# Altium schematic symbol library Molex FFC - FPC Connectors (Through-Hole).SchLib: 219 symbols (part 5 of 7)
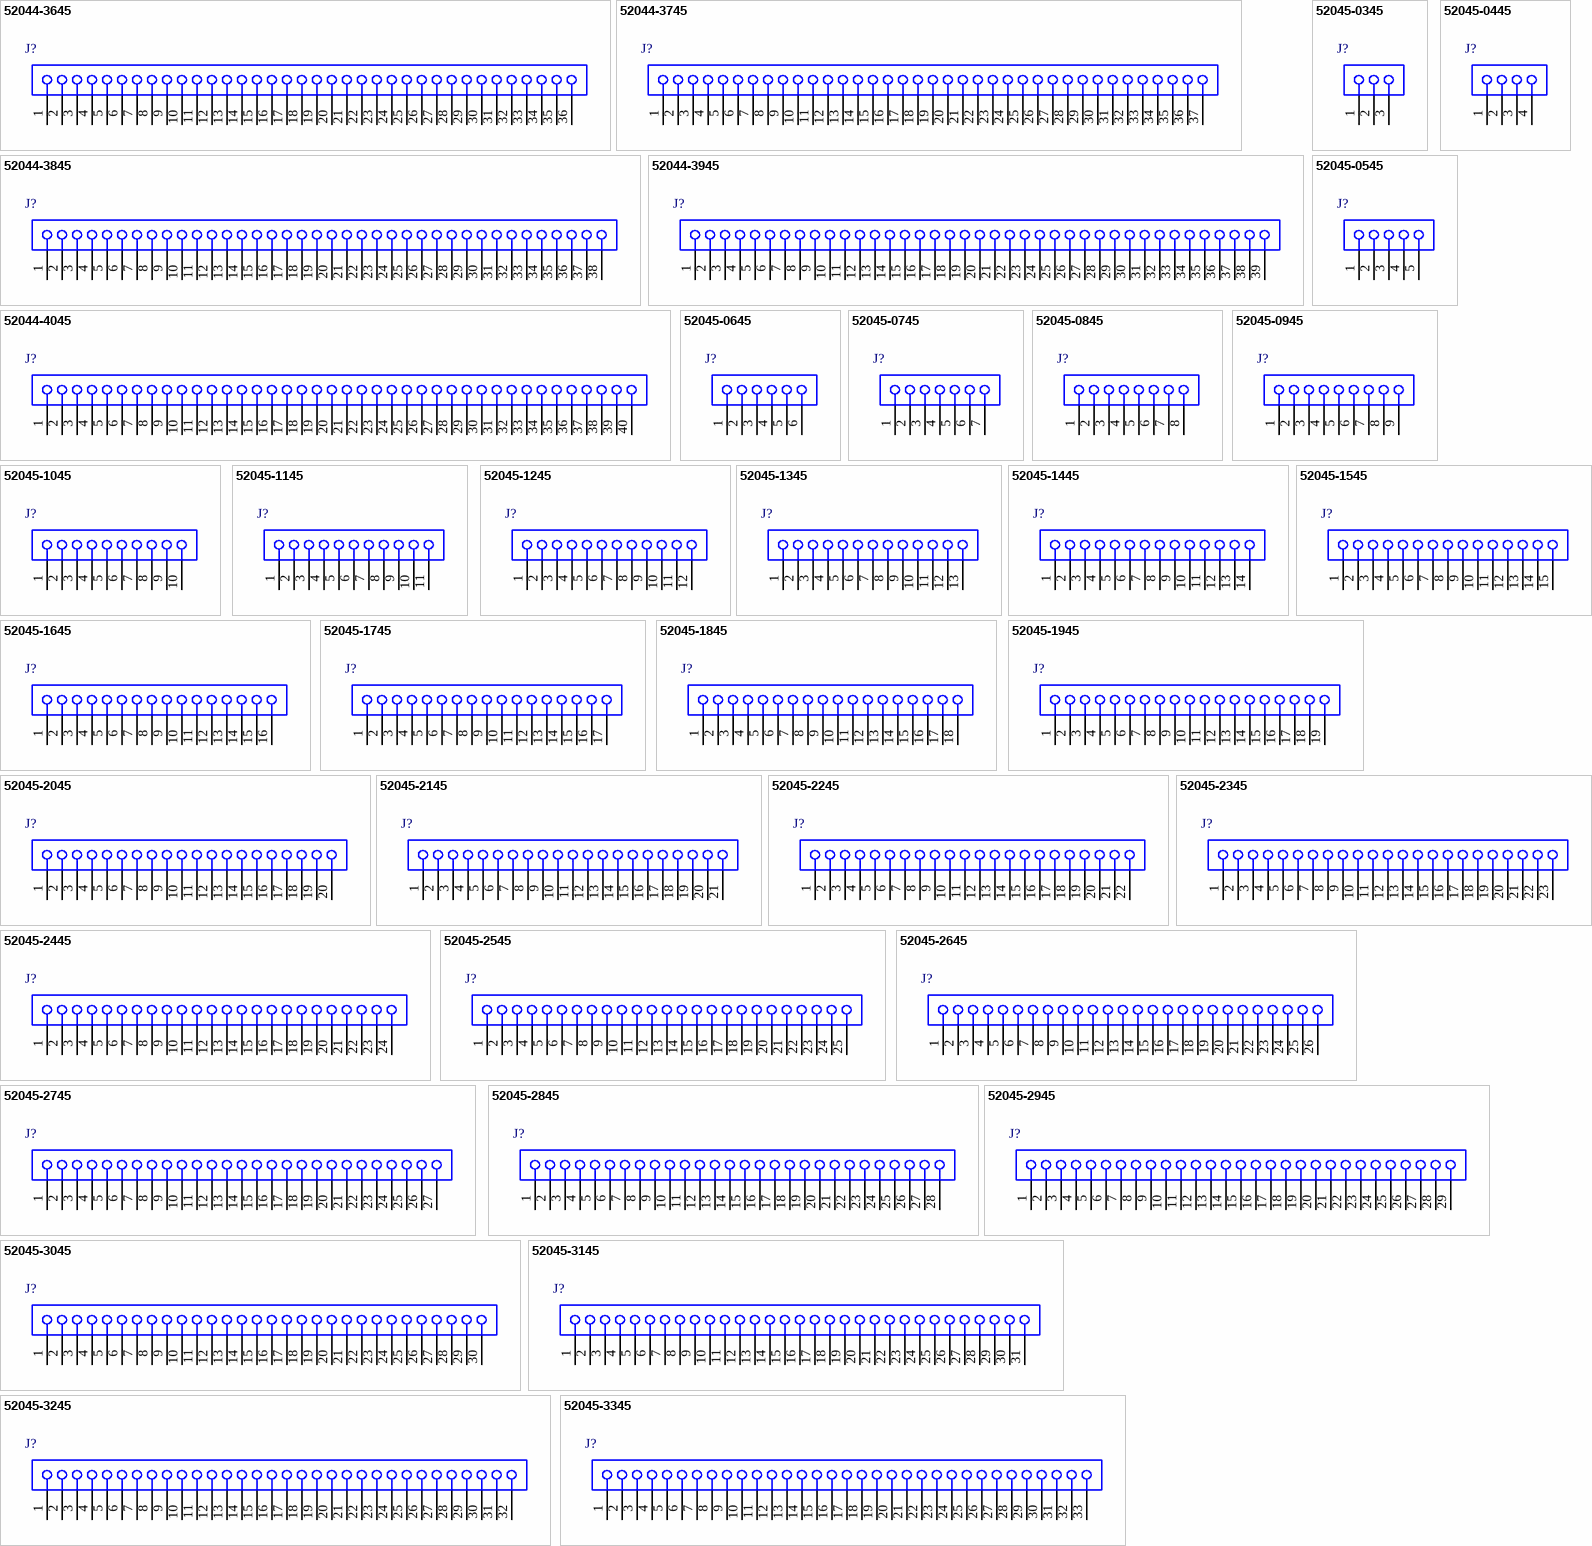
[diagram p9: symbols 52044-3645 to 52045-3345]

## 52045-2845
designator J?
1.25 mm Pitch FFC Connector, 8.0 mm Mated Height, Vertical, Non-ZIF, Through Hole, 28 Circuits, -40 to 85 degC, ELV and RoHS Compliant, Tray; Manufacturer: Molex; PartNumber: 52045-2845; Circuits (Loaded): 28; Current (Max per Contact): 1A; Mated Height: 8.00mm; Material - Metal: Phosphor Bronze; Material - Plating Mating: Tin; PCB Retention: None; Pitch - Mating Interface: 1.25mm; Polarized to PCB: Yes; Stackable: No; Voltage (Max): 200V; PackageVersion: Rev. D, 10/2002; PackageReference: 52045-2845; PackageDescription: 28-Lead FFC Connector, Pitch 1.25 mm; Contact Position: N/A; Entry Angle: Vertical; Material - Plating Termination: Tin; Number of Rows: 1; Orientation: Vertical; Packing: Tray; RoHS: TRUE; Mounting Technology: Through Hole; ComponentLink1Description: Manufacturer URL; ComponentLink1URL: http://www.molex.com/molex/index.jsp; ComponentLink2Description: Datasheet; ComponentLink2URL: http://www.molex.com/webdocs/datasheets/pdf/en-us/0520452845_FFC_FPC_CONNECTORS.pdf; ComponentLink3Description: Package Specification; ComponentLink3URL: http://www.molex.com/pdm_docs/sd/520452845_sd.pdf
footprint MOLX-52045-2845 (FFC Connector, 28-Leads, Vertical, Pitch 1.25 mm, Mated Height 8.0 mm, Through Hole)
pins: 1, 2, 3, 4, 5, 6, 7, 8, 9, 10, 11, 12, 13, 14, 15, 16, 17, 18, 19, 20, 21, 22, 23, 24, 25, 26, 27, 28

## 52045-2945
designator J?
1.25 mm Pitch FFC Connector, 8.0 mm Mated Height, Vertical, Non-ZIF, Through Hole, 29 Circuits, -40 to 85 degC, ELV and RoHS Compliant, Tray; Manufacturer: Molex; PartNumber: 52045-2945; Circuits (Loaded): 29; Current (Max per Contact): 1A; Mated Height: 8.00mm; Material - Metal: Phosphor Bronze; Material - Plating Mating: Tin; PCB Retention: None; Pitch - Mating Interface: 1.25mm; Polarized to PCB: Yes; Stackable: No; Voltage (Max): 200V; PackageVersion: Rev. D, 10/2002; PackageReference: 52045-2945; PackageDescription: 29-Lead FFC Connector, Pitch 1.25 mm; Contact Position: N/A; Entry Angle: Vertical; Material - Plating Termination: Tin; Number of Rows: 1; Orientation: Vertical; Packing: Tray; RoHS: TRUE; Mounting Technology: Through Hole; ComponentLink1Description: Manufacturer URL; ComponentLink1URL: http://www.molex.com/molex/index.jsp; ComponentLink2Description: Datasheet; ComponentLink2URL: http://www.molex.com/webdocs/datasheets/pdf/en-us/0520452945_FFC_FPC_CONNECTORS.pdf; ComponentLink3Description: Package Specification; ComponentLink3URL: http://www.molex.com/pdm_docs/sd/520452945_sd.pdf
footprint MOLX-52045-2945 (FFC Connector, 29-Leads, Vertical, Pitch 1.25 mm, Mated Height 8.0 mm, Through Hole)
pins: 1, 2, 3, 4, 5, 6, 7, 8, 9, 10, 11, 12, 13, 14, 15, 16, 17, 18, 19, 20, 21, 22, 23, 24, 25, 26, 27, 28, 29

## 52045-3045
designator J?
1.25 mm Pitch FFC Connector, 8.0 mm Mated Height, Vertical, Non-ZIF, Through Hole, 30 Circuits, -40 to 85 degC, ELV and RoHS Compliant, Tray; Manufacturer: Molex; PartNumber: 52045-3045; Circuits (Loaded): 30; Current (Max per Contact): 1A; Mated Height: 8.00mm; Material - Metal: Phosphor Bronze; Material - Plating Mating: Tin; PCB Retention: None; Pitch - Mating Interface: 1.25mm; Polarized to PCB: Yes; Stackable: No; Voltage (Max): 200V; PackageVersion: Rev. D, 10/2002; PackageReference: 52045-3045; PackageDescription: 30-Lead FFC Connector, Pitch 1.25 mm; Contact Position: N/A; Entry Angle: Vertical; Material - Plating Termination: Tin; Number of Rows: 1; Orientation: Vertical; Packing: Tray; RoHS: TRUE; Mounting Technology: Through Hole; ComponentLink1Description: Manufacturer URL; ComponentLink1URL: http://www.molex.com/molex/index.jsp; ComponentLink2Description: Datasheet; ComponentLink2URL: http://www.molex.com/webdocs/datasheets/pdf/en-us/0520453045_FFC_FPC_CONNECTORS.pdf; ComponentLink3Description: Package Specification; ComponentLink3URL: http://www.molex.com/pdm_docs/sd/520453045_sd.pdf
footprint MOLX-52045-3045 (FFC Connector, 30-Leads, Vertical, Pitch 1.25 mm, Mated Height 8.0 mm, Through Hole)
pins: 1, 2, 3, 4, 5, 6, 7, 8, 9, 10, 11, 12, 13, 14, 15, 16, 17, 18, 19, 20, 21, 22, 23, 24, 25, 26, 27, 28, 29, 30

## 52045-3145
designator J?
1.25 mm Pitch FFC Connector, 8.0 mm Mated Height, Vertical, Non-ZIF, Through Hole, 31 Circuits, -40 to 85 degC, ELV and RoHS Compliant, Tray; Manufacturer: Molex; PartNumber: 52045-3145; Circuits (Loaded): 31; Current (Max per Contact): 1A; Mated Height: 8.00mm; Material - Metal: Phosphor Bronze; Material - Plating Mating: Tin; PCB Retention: None; Pitch - Mating Interface: 1.25mm; Polarized to PCB: Yes; Stackable: No; Voltage (Max): 200V; PackageVersion: Rev. D, 10/2002; PackageReference: 52045-3145; PackageDescription: 31-Lead FFC Connector, Pitch 1.25 mm; Contact Position: N/A; Entry Angle: Vertical; Material - Plating Termination: Tin; Number of Rows: 1; Orientation: Vertical; Packing: Tray; RoHS: TRUE; Mounting Technology: Through Hole; ComponentLink1Description: Manufacturer URL; ComponentLink1URL: http://www.molex.com/molex/index.jsp; ComponentLink2Description: Datasheet; ComponentLink2URL: http://www.molex.com/webdocs/datasheets/pdf/en-us/0520453145_FFC_FPC_CONNECTORS.pdf; ComponentLink3Description: Package Specification; ComponentLink3URL: http://www.molex.com/pdm_docs/sd/520453145_sd.pdf
footprint MOLX-52045-3145 (FFC Connector, 31-Leads, Vertical, Pitch 1.25 mm, Mated Height 8.0 mm, Through Hole)
pins: 1, 2, 3, 4, 5, 6, 7, 8, 9, 10, 11, 12, 13, 14, 15, 16, 17, 18, 19, 20, 21, 22, 23, 24, 25, 26, 27, 28, 29, 30, 31

## 52045-3245
designator J?
1.25 mm Pitch FFC Connector, 8.0 mm Mated Height, Vertical, Non-ZIF, Through Hole, 32 Circuits, -40 to 85 degC, ELV and RoHS Compliant, Tray; Manufacturer: Molex; PartNumber: 52045-3245; Circuits (Loaded): 32; Current (Max per Contact): 1A; Mated Height: 8.00mm; Material - Metal: Phosphor Bronze; Material - Plating Mating: Tin; PCB Retention: None; Pitch - Mating Interface: 1.25mm; Polarized to PCB: Yes; Stackable: No; Voltage (Max): 200V; PackageVersion: Rev. D, 10/2002; PackageReference: 52045-3245; PackageDescription: 32-Lead FFC Connector, Pitch 1.25 mm; Contact Position: N/A; Entry Angle: Vertical; Material - Plating Termination: Tin; Number of Rows: 1; Orientation: Vertical; Packing: Tray; RoHS: TRUE; Mounting Technology: Through Hole; ComponentLink1Description: Manufacturer URL; ComponentLink1URL: http://www.molex.com/molex/index.jsp; ComponentLink2Description: Datasheet; ComponentLink2URL: http://www.molex.com/webdocs/datasheets/pdf/en-us/0520453245_FFC_FPC_CONNECTORS.pdf; ComponentLink3Description: Package Specification; ComponentLink3URL: http://www.molex.com/pdm_docs/sd/520453245_sd.pdf
footprint MOLX-52045-3245 (FFC Connector, 32-Leads, Vertical, Pitch 1.25 mm, Mated Height 8.0 mm, Through Hole)
pins: 1, 2, 3, 4, 5, 6, 7, 8, 9, 10, 11, 12, 13, 14, 15, 16, 17, 18, 19, 20, 21, 22, 23, 24, 25, 26, 27, 28, 29, 30, 31, 32

## 52045-3345
designator J?
1.25 mm Pitch FFC Connector, 8.0 mm Mated Height, Vertical, Non-ZIF, Through Hole, 33 Circuits, -40 to 85 degC, ELV and RoHS Compliant, Tray; Manufacturer: Molex; PartNumber: 52045-3345; Circuits (Loaded): 33; Current (Max per Contact): 1A; Mated Height: 8.00mm; Material - Metal: Phosphor Bronze; Material - Plating Mating: Tin; PCB Retention: None; Pitch - Mating Interface: 1.25mm; Polarized to PCB: Yes; Stackable: No; Voltage (Max): 200V; PackageVersion: Rev. D, 10/2002; PackageReference: 52045-3345; PackageDescription: 33-Lead FFC Connector, Pitch 1.25 mm; Contact Position: N/A; Entry Angle: Vertical; Material - Plating Termination: Tin; Number of Rows: 1; Orientation: Vertical; Packing: Tray; RoHS: TRUE; Mounting Technology: Through Hole; ComponentLink1Description: Manufacturer URL; ComponentLink1URL: http://www.molex.com/molex/index.jsp; ComponentLink2Description: Datasheet; ComponentLink2URL: http://www.molex.com/webdocs/datasheets/pdf/en-us/0520453345_FFC_FPC_CONNECTORS.pdf; ComponentLink3Description: Package Specification; ComponentLink3URL: http://www.molex.com/pdm_docs/sd/520453345_sd.pdf
footprint MOLX-52045-3345 (FFC Connector, 33-Leads, Vertical, Pitch 1.25 mm, Mated Height 8.0 mm, Through Hole)
pins: 1, 2, 3, 4, 5, 6, 7, 8, 9, 10, 11, 12, 13, 14, 15, 16, 17, 18, 19, 20, 21, 22, 23, 24, 25, 26, 27, 28, 29, 30, 31, 32, 33

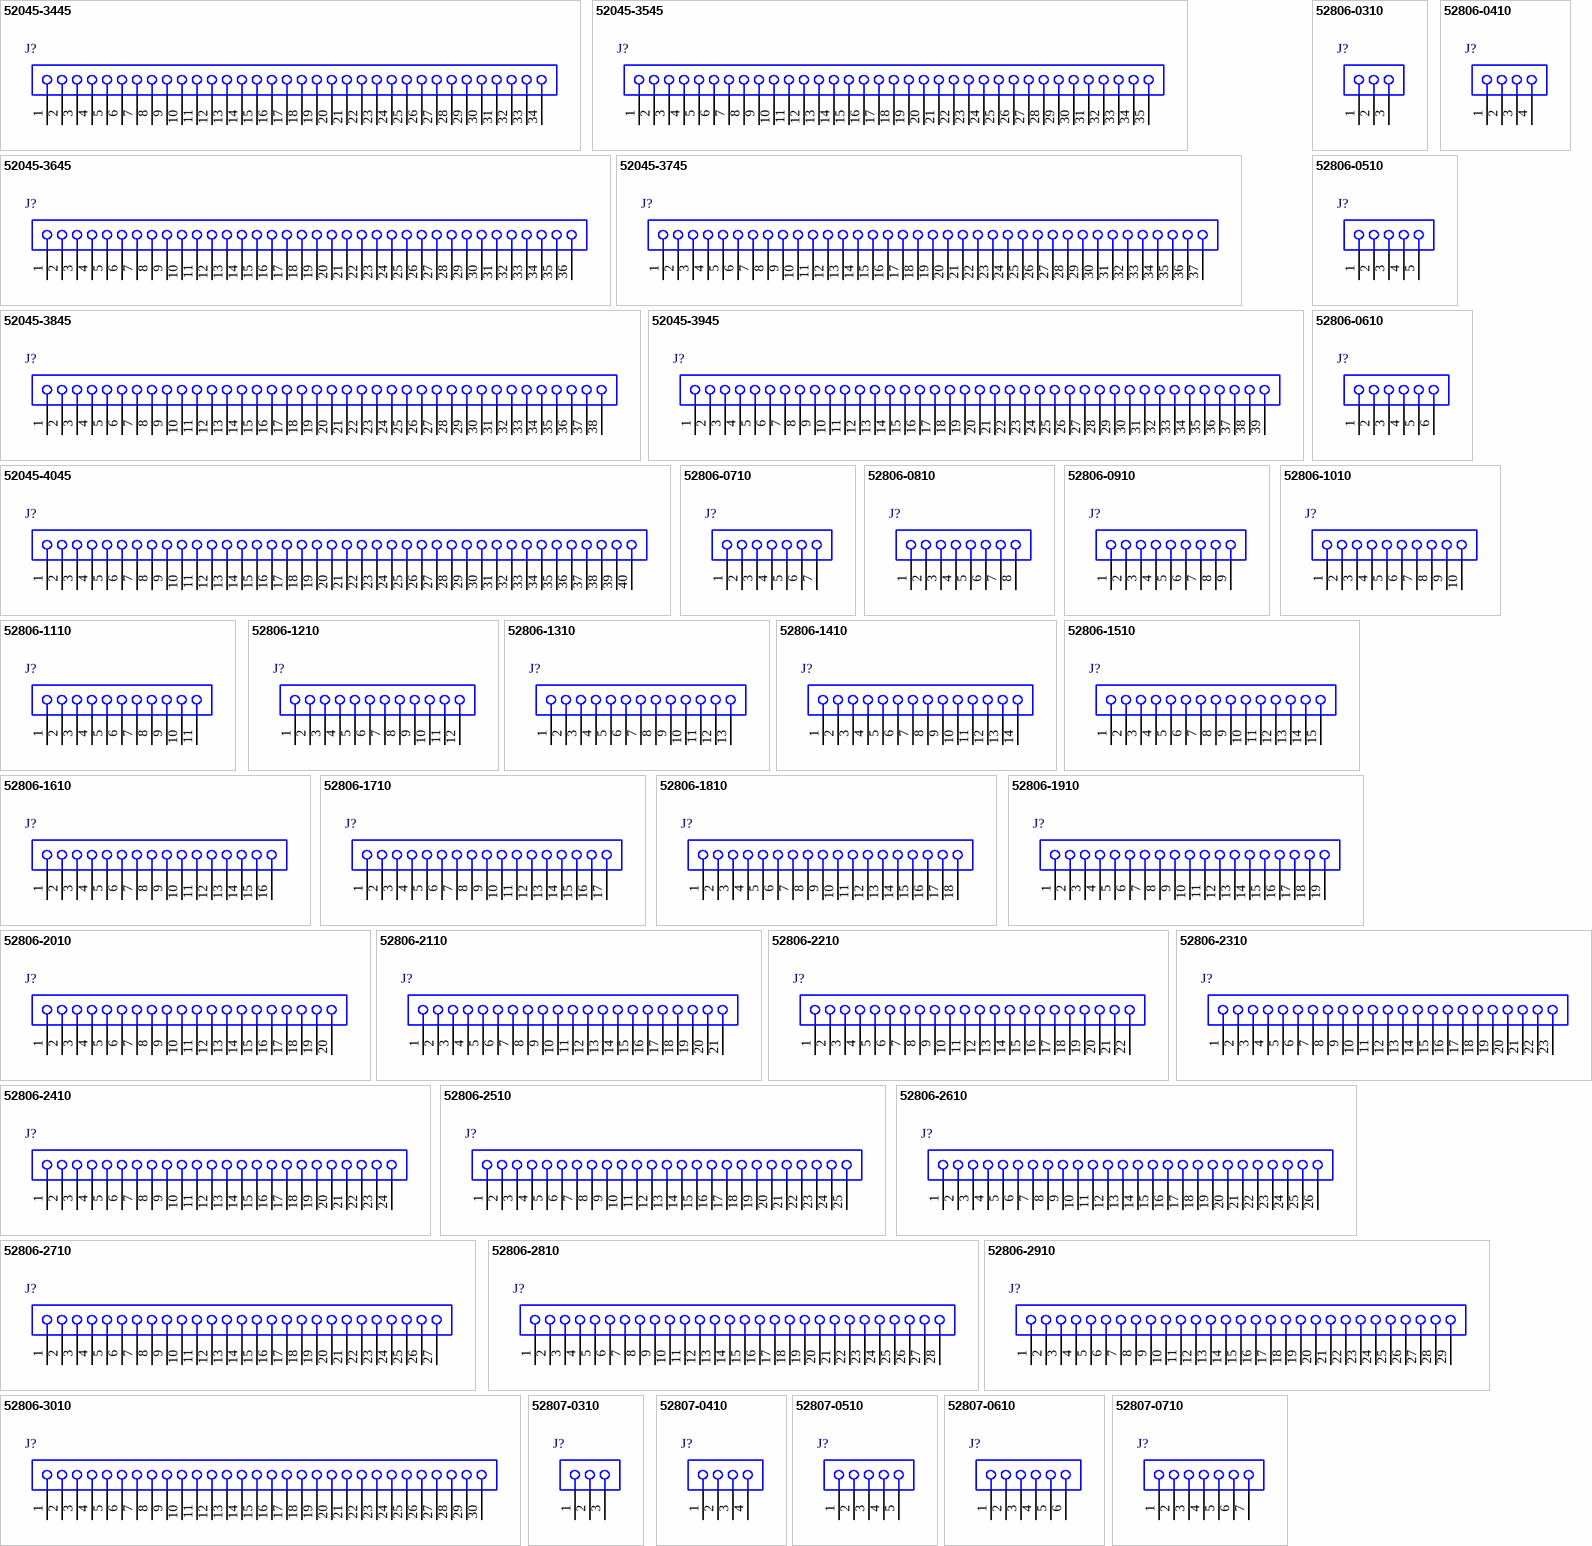
[diagram p4: symbols 52045-3445 to 52807-0710]

## 52045-3445
designator J?
1.25 mm Pitch FFC Connector, 8.0 mm Mated Height, Vertical, Non-ZIF, Through Hole, 34 Circuits, -40 to 85 degC, ELV and RoHS Compliant, Tray; Manufacturer: Molex; PartNumber: 52045-3445; Circuits (Loaded): 34; Current (Max per Contact): 1A; Mated Height: 8.00mm; Material - Metal: Phosphor Bronze; Material - Plating Mating: Tin; PCB Retention: None; Pitch - Mating Interface: 1.25mm; Polarized to PCB: Yes; Stackable: No; Voltage (Max): 200V; PackageVersion: Rev. D, 10/2002; PackageReference: 52045-3445; PackageDescription: 34-Lead FFC Connector, Pitch 1.25 mm; Contact Position: N/A; Entry Angle: Vertical; Material - Plating Termination: Tin; Number of Rows: 1; Orientation: Vertical; Packing: Tray; RoHS: TRUE; Mounting Technology: Through Hole; ComponentLink1Description: Manufacturer URL; ComponentLink1URL: http://www.molex.com/molex/index.jsp; ComponentLink2Description: Datasheet; ComponentLink2URL: http://www.molex.com/webdocs/datasheets/pdf/en-us/0520453445_FFC_FPC_CONNECTORS.pdf; ComponentLink3Description: Package Specification; ComponentLink3URL: http://www.molex.com/pdm_docs/sd/520453445_sd.pdf
footprint MOLX-52045-3445 (FFC Connector, 34-Leads, Vertical, Pitch 1.25 mm, Mated Height 8.0 mm, Through Hole)
pins: 1, 2, 3, 4, 5, 6, 7, 8, 9, 10, 11, 12, 13, 14, 15, 16, 17, 18, 19, 20, 21, 22, 23, 24, 25, 26, 27, 28, 29, 30, 31, 32, 33, 34

## 52045-3545
designator J?
1.25 mm Pitch FFC Connector, 8.0 mm Mated Height, Vertical, Non-ZIF, Through Hole, 35 Circuits, -40 to 85 degC, ELV and RoHS Compliant, Tray; Manufacturer: Molex; PartNumber: 52045-3545; Circuits (Loaded): 35; Current (Max per Contact): 1A; Mated Height: 8.00mm; Material - Metal: Phosphor Bronze; Material - Plating Mating: Tin; PCB Retention: None; Pitch - Mating Interface: 1.25mm; Polarized to PCB: Yes; Stackable: No; Voltage (Max): 200V; PackageVersion: Rev. D, 10/2002; PackageReference: 52045-3545; PackageDescription: 35-Lead FFC Connector, Pitch 1.25 mm; Contact Position: N/A; Entry Angle: Vertical; Material - Plating Termination: Tin; Number of Rows: 1; Orientation: Vertical; Packing: Tray; RoHS: TRUE; Mounting Technology: Through Hole; ComponentLink1Description: Manufacturer URL; ComponentLink1URL: http://www.molex.com/molex/index.jsp; ComponentLink2Description: Datasheet; ComponentLink2URL: http://www.molex.com/webdocs/datasheets/pdf/en-us/0520453545_FFC_FPC_CONNECTORS.pdf; ComponentLink3Description: Package Specification; ComponentLink3URL: http://www.molex.com/pdm_docs/sd/520453545_sd.pdf
footprint MOLX-52045-3545 (FFC Connector, 35-Leads, Vertical, Pitch 1.25 mm, Mated Height 8.0 mm, Through Hole)
pins: 1, 2, 3, 4, 5, 6, 7, 8, 9, 10, 11, 12, 13, 14, 15, 16, 17, 18, 19, 20, 21, 22, 23, 24, 25, 26, 27, 28, 29, 30, 31, 32, 33, 34, 35

## 52045-3645
designator J?
1.25 mm Pitch FFC Connector, 8.0 mm Mated Height, Vertical, Non-ZIF, Through Hole, 36 Circuits, -40 to 85 degC, ELV and RoHS Compliant, Tray; Manufacturer: Molex; PartNumber: 52045-3645; Circuits (Loaded): 36; Current (Max per Contact): 1A; Mated Height: 8.00mm; Material - Metal: Phosphor Bronze; Material - Plating Mating: Tin; PCB Retention: None; Pitch - Mating Interface: 1.25mm; Polarized to PCB: Yes; Stackable: No; Voltage (Max): 200V; PackageVersion: Rev. D, 10/2002; PackageReference: 52045-3645; PackageDescription: 36-Lead FFC Connector, Pitch 1.25 mm; Contact Position: N/A; Entry Angle: Vertical; Material - Plating Termination: Tin; Number of Rows: 1; Orientation: Vertical; Packing: Tray; RoHS: TRUE; Mounting Technology: Through Hole; ComponentLink1Description: Manufacturer URL; ComponentLink1URL: http://www.molex.com/molex/index.jsp; ComponentLink2Description: Datasheet; ComponentLink2URL: http://www.molex.com/webdocs/datasheets/pdf/en-us/0520453645_FFC_FPC_CONNECTORS.pdf; ComponentLink3Description: Package Specification; ComponentLink3URL: http://www.molex.com/pdm_docs/sd/520453645_sd.pdf
footprint MOLX-52045-3645 (FFC Connector, 36-Leads, Vertical, Pitch 1.25 mm, Mated Height 8.0 mm, Through Hole)
pins: 1, 2, 3, 4, 5, 6, 7, 8, 9, 10, 11, 12, 13, 14, 15, 16, 17, 18, 19, 20, 21, 22, 23, 24, 25, 26, 27, 28, 29, 30, 31, 32, 33, 34, 35, 36

## 52045-3745
designator J?
1.25 mm Pitch FFC Connector, 8.0 mm Mated Height, Vertical, Non-ZIF, Through Hole, 37 Circuits, -40 to 85 degC, ELV and RoHS Compliant, Tray; Manufacturer: Molex; PartNumber: 52045-3745; Circuits (Loaded): 37; Current (Max per Contact): 1A; Mated Height: 8.00mm; Material - Metal: Phosphor Bronze; Material - Plating Mating: Tin; PCB Retention: None; Pitch - Mating Interface: 1.25mm; Polarized to PCB: Yes; Stackable: No; Voltage (Max): 200V; PackageVersion: Rev. D, 10/2002; PackageReference: 52045-3745; PackageDescription: 37-Lead FFC Connector, Pitch 1.25 mm; Contact Position: N/A; Entry Angle: Vertical; Material - Plating Termination: Tin; Number of Rows: 1; Orientation: Vertical; Packing: Tray; RoHS: TRUE; Mounting Technology: Through Hole; ComponentLink1Description: Manufacturer URL; ComponentLink1URL: http://www.molex.com/molex/index.jsp; ComponentLink2Description: Datasheet; ComponentLink2URL: http://www.molex.com/webdocs/datasheets/pdf/en-us/0520453745_FFC_FPC_CONNECTORS.pdf; ComponentLink3Description: Package Specification; ComponentLink3URL: http://www.molex.com/pdm_docs/sd/520453745_sd.pdf
footprint MOLX-52045-3745 (FFC Connector, 37-Leads, Vertical, Pitch 1.25 mm, Mated Height 8.0 mm, Through Hole)
pins: 1, 2, 3, 4, 5, 6, 7, 8, 9, 10, 11, 12, 13, 14, 15, 16, 17, 18, 19, 20, 21, 22, 23, 24, 25, 26, 27, 28, 29, 30, 31, 32, 33, 34, 35, 36, 37

## 52045-3845
designator J?
1.25 mm Pitch FFC Connector, 8.0 mm Mated Height, Vertical, Non-ZIF, Through Hole, 38 Circuits, -40 to 85 degC, ELV and RoHS Compliant, Tray; Manufacturer: Molex; PartNumber: 52045-3845; Circuits (Loaded): 38; Current (Max per Contact): 1A; Mated Height: 8.00mm; Material - Metal: Phosphor Bronze; Material - Plating Mating: Tin; PCB Retention: None; Pitch - Mating Interface: 1.25mm; Polarized to PCB: Yes; Stackable: No; Voltage (Max): 200V; PackageVersion: Rev. D, 10/2002; PackageReference: 52045-3845; PackageDescription: 38-Lead FFC Connector, Pitch 1.25 mm; Contact Position: N/A; Entry Angle: Vertical; Material - Plating Termination: Tin; Number of Rows: 1; Orientation: Vertical; Packing: Tray; RoHS: TRUE; Mounting Technology: Through Hole; ComponentLink1Description: Manufacturer URL; ComponentLink1URL: http://www.molex.com/molex/index.jsp; ComponentLink2Description: Datasheet; ComponentLink2URL: http://www.molex.com/webdocs/datasheets/pdf/en-us/0520453845_FFC_FPC_CONNECTORS.pdf; ComponentLink3Description: Package Specification; ComponentLink3URL: http://www.molex.com/pdm_docs/sd/520453845_sd.pdf
footprint MOLX-52045-3845 (FFC Connector, 38-Leads, Vertical, Pitch 1.25 mm, Mated Height 8.0 mm, Through Hole)
pins: 1, 2, 3, 4, 5, 6, 7, 8, 9, 10, 11, 12, 13, 14, 15, 16, 17, 18, 19, 20, 21, 22, 23, 24, 25, 26, 27, 28, 29, 30, 31, 32, 33, 34, 35, 36, 37, 38

## 52045-3945
designator J?
1.25 mm Pitch FFC Connector, 8.0 mm Mated Height, Vertical, Non-ZIF, Through Hole, 39 Circuits, -40 to 85 degC, ELV and RoHS Compliant, Tray; Manufacturer: Molex; PartNumber: 52045-3945; Circuits (Loaded): 39; Current (Max per Contact): 1A; Mated Height: 8.00mm; Material - Metal: Phosphor Bronze; Material - Plating Mating: Tin; PCB Retention: None; Pitch - Mating Interface: 1.25mm; Polarized to PCB: Yes; Stackable: No; Voltage (Max): 200V; PackageVersion: Rev. D, 10/2002; PackageReference: 52045-3945; PackageDescription: 39-Lead FFC Connector, Pitch 1.25 mm; Contact Position: N/A; Entry Angle: Vertical; Material - Plating Termination: Tin; Number of Rows: 1; Orientation: Vertical; Packing: Tray; RoHS: TRUE; Mounting Technology: Through Hole; ComponentLink1Description: Manufacturer URL; ComponentLink1URL: http://www.molex.com/molex/index.jsp; ComponentLink2Description: Datasheet; ComponentLink2URL: http://www.molex.com/webdocs/datasheets/pdf/en-us/0520453945_FFC_FPC_CONNECTORS.pdf; ComponentLink3Description: Package Specification; ComponentLink3URL: http://www.molex.com/pdm_docs/sd/520453945_sd.pdf
footprint MOLX-52045-3945 (FFC Connector, 39-Leads, Vertical, Pitch 1.25 mm, Mated Height 8.0 mm, Through Hole)
pins: 1, 2, 3, 4, 5, 6, 7, 8, 9, 10, 11, 12, 13, 14, 15, 16, 17, 18, 19, 20, 21, 22, 23, 24, 25, 26, 27, 28, 29, 30, 31, 32, 33, 34, 35, 36, 37, 38, 39

## 52045-4045
designator J?
1.25 mm Pitch FFC Connector, 8.0 mm Mated Height, Vertical, Non-ZIF, Through Hole, 40 Circuits, -40 to 85 degC, ELV and RoHS Compliant, Tray; Manufacturer: Molex; PartNumber: 52045-4045; Circuits (Loaded): 40; Current (Max per Contact): 1A; Mated Height: 8.00mm; Material - Metal: Phosphor Bronze; Material - Plating Mating: Tin; PCB Retention: None; Pitch - Mating Interface: 1.25mm; Polarized to PCB: Yes; Stackable: No; Voltage (Max): 200V; PackageVersion: Rev. D, 10/2002; PackageReference: 52045-4045; PackageDescription: 40-Lead FFC Connector, Pitch 1.25 mm; Contact Position: N/A; Entry Angle: Vertical; Material - Plating Termination: Tin; Number of Rows: 1; Orientation: Vertical; Packing: Tray; RoHS: TRUE; Mounting Technology: Through Hole; ComponentLink1Description: Manufacturer URL; ComponentLink1URL: http://www.molex.com/molex/index.jsp; ComponentLink2Description: Datasheet; ComponentLink2URL: http://www.molex.com/webdocs/datasheets/pdf/en-us/0520454045_FFC_FPC_CONNECTORS.pdf; ComponentLink3Description: Package Specification; ComponentLink3URL: http://www.molex.com/pdm_docs/sd/520454045_sd.pdf
footprint MOLX-52045-4045 (FFC Connector, 40-Leads, Vertical, Pitch 1.25 mm, Mated Height 8.0 mm, Through Hole)
pins: 1, 2, 3, 4, 5, 6, 7, 8, 9, 10, 11, 12, 13, 14, 15, 16, 17, 18, 19, 20, 21, 22, 23, 24, 25, 26, 27, 28, 29, 30, 31, 32, 33, 34, 35, 36, 37, 38, 39, 40

## 52806-0310
designator J?
1.0 mm Pitch FFC Connector, 5.4 mm Mated Height, Vertical, Non-ZIF, Through Hole, 3 Circuits, -20 to 80 degC, ELV and RoHS Compliant, Tray; Manufacturer: Molex; PartNumber: 52806-0310; Circuits (Loaded): 3; Current (Max per Contact): 0.5A; Durability (mating cycles max): 10; Mated Height: 5.40mm; Material - Metal: Phosphor Bronze; Material - Plating Mating: Tin; PCB Locator: No; PCB Retention: None; Pitch - Mating Interface: 1.00mm; Voltage (Max): 50V AC (RMS)/DC; PackageVersion: Rev. B, 08/2002; PackageReference: 52806-0310; PackageDescription: 3-Lead FFC Connector, Pitch 1.0 mm; Circuits (maximum): 3; Contact Position: N/A; Entry Angle: Vertical; Material - Plating Termination: Tin; Number of Rows: 1; Orientation: Vertical; Packing: Tray; Pitch - Termination Interface: 1.00mm; Polarized to PCB: No; RoHS: TRUE; Stackable: No; Mounting Technology: Through Hole; ComponentLink1Description: Manufacturer URL; ComponentLink1URL: http://www.molex.com/molex/index.jsp; ComponentLink2Description: Datasheet; ComponentLink2URL: http://www.molex.com/webdocs/datasheets/pdf/en-us/0528060310_FFC_FPC_CONNECTORS.pdf; ComponentLink3Description: Package Specification; ComponentLink3URL: http://www.molex.com/pdm_docs/sd/528060310_sd.pdf
footprint MOLX-52806-0310 (FFC Connector, 3-Leads, Vertical, Pitch 1.0 mm, Mated Height 5.4 mm, Through Hole)
pins: 1, 2, 3

## 52806-0410
designator J?
1.0 mm Pitch FFC Connector, 5.4 mm Mated Height, Vertical, Non-ZIF, Through Hole, 4 Circuits, -20 to 80 degC, ELV and RoHS Compliant, Tray; Manufacturer: Molex; PartNumber: 52806-0410; Circuits (Loaded): 4; Current (Max per Contact): 0.5A; Durability (mating cycles max): 10; Mated Height: 5.40mm; Material - Metal: Phosphor Bronze; Material - Plating Mating: Tin; PCB Locator: No; PCB Retention: None; Pitch - Mating Interface: 1.00mm; Voltage (Max): 50V AC (RMS)/DC; PackageVersion: Rev. B, 08/2002; PackageReference: 52806-0410; PackageDescription: 4-Lead FFC Connector, Pitch 1.0 mm; Circuits (maximum): 4; Contact Position: N/A; Entry Angle: Vertical; Material - Plating Termination: Tin; Number of Rows: 1; Orientation: Vertical; Packing: Tray; Pitch - Termination Interface: 1.00mm; Polarized to PCB: No; RoHS: TRUE; Stackable: No; Mounting Technology: Through Hole; ComponentLink1Description: Manufacturer URL; ComponentLink1URL: http://www.molex.com/molex/index.jsp; ComponentLink2Description: Datasheet; ComponentLink2URL: http://www.molex.com/webdocs/datasheets/pdf/en-us/0528060410_FFC_FPC_CONNECTORS.pdf; ComponentLink3Description: Package Specification; ComponentLink3URL: http://www.molex.com/pdm_docs/sd/528060410_sd.pdf
footprint MOLX-52806-0410 (FFC Connector, 4-Leads, Vertical, Pitch 1.0 mm, Mated Height 5.4 mm, Through Hole)
pins: 1, 2, 3, 4

## 52806-0510
designator J?
1.0 mm Pitch FFC Connector, 5.4 mm Mated Height, Vertical, Non-ZIF, Through Hole, 5 Circuits, -20 to 80 degC, ELV and RoHS Compliant, Tray; Manufacturer: Molex; PartNumber: 52806-0510; Circuits (Loaded): 5; Current (Max per Contact): 0.5A; Durability (mating cycles max): 10; Mated Height: 5.40mm; Material - Metal: Phosphor Bronze; Material - Plating Mating: Tin; PCB Locator: No; PCB Retention: None; Pitch - Mating Interface: 1.00mm; Voltage (Max): 50V AC (RMS)/DC; PackageVersion: Rev. B, 08/2002; PackageReference: 52806-0510; PackageDescription: 5-Lead FFC Connector, Pitch 1.0 mm; Circuits (maximum): 5; Contact Position: N/A; Entry Angle: Vertical; Material - Plating Termination: Tin; Number of Rows: 1; Orientation: Vertical; Packing: Tray; Pitch - Termination Interface: 1.00mm; Polarized to PCB: No; RoHS: TRUE; Stackable: No; Mounting Technology: Through Hole; ComponentLink1Description: Manufacturer URL; ComponentLink1URL: http://www.molex.com/molex/index.jsp; ComponentLink2Description: Datasheet; ComponentLink2URL: http://www.molex.com/webdocs/datasheets/pdf/en-us/0528060510_FFC_FPC_CONNECTORS.pdf; ComponentLink3Description: Package Specification; ComponentLink3URL: http://www.molex.com/pdm_docs/sd/528060510_sd.pdf
footprint MOLX-52806-0510 (FFC Connector, 5-Leads, Vertical, Pitch 1.0 mm, Mated Height 5.4 mm, Through Hole)
pins: 1, 2, 3, 4, 5

## 52806-0610
designator J?
1.0 mm Pitch FFC Connector, 5.4 mm Mated Height, Vertical, Non-ZIF, Through Hole, 6 Circuits, -20 to 80 degC, ELV and RoHS Compliant, Tray; Manufacturer: Molex; PartNumber: 52806-0610; Circuits (Loaded): 6; Current (Max per Contact): 0.5A; Durability (mating cycles max): 10; Mated Height: 5.40mm; Material - Metal: Phosphor Bronze; Material - Plating Mating: Tin; PCB Locator: No; PCB Retention: None; Pitch - Mating Interface: 1.00mm; Voltage (Max): 50V AC (RMS)/DC; PackageVersion: Rev. B, 08/2002; PackageReference: 52806-0610; PackageDescription: 6-Lead FFC Connector, Pitch 1.0 mm; Circuits (maximum): 6; Contact Position: N/A; Entry Angle: Vertical; Material - Plating Termination: Tin; Number of Rows: 1; Orientation: Vertical; Packing: Tray; Pitch - Termination Interface: 1.00mm; Polarized to PCB: No; RoHS: TRUE; Stackable: No; Mounting Technology: Through Hole; ComponentLink1Description: Manufacturer URL; ComponentLink1URL: http://www.molex.com/molex/index.jsp; ComponentLink2Description: Datasheet; ComponentLink2URL: http://www.molex.com/webdocs/datasheets/pdf/en-us/0528060610_FFC_FPC_CONNECTORS.pdf; ComponentLink3Description: Package Specification; ComponentLink3URL: http://www.molex.com/pdm_docs/sd/528060610_sd.pdf
footprint MOLX-52806-0610 (FFC Connector, 6-Leads, Vertical, Pitch 1.0 mm, Mated Height 5.4 mm, Through Hole)
pins: 1, 2, 3, 4, 5, 6

## 52806-0710
designator J?
1.0 mm Pitch FFC Connector, 5.4 mm Mated Height, Vertical, Non-ZIF, Through Hole, 7 Circuits, -20 to 80 degC, ELV and RoHS Compliant, Tray; Manufacturer: Molex; PartNumber: 52806-0710; Circuits (Loaded): 7; Current (Max per Contact): 0.5A; Durability (mating cycles max): 10; Mated Height: 5.40mm; Material - Metal: Phosphor Bronze; Material - Plating Mating: Tin; PCB Locator: No; PCB Retention: None; Pitch - Mating Interface: 1.00mm; Voltage (Max): 50V AC (RMS)/DC; PackageVersion: Rev. B, 08/2002; PackageReference: 52806-0710; PackageDescription: 7-Lead FFC Connector, Pitch 1.0 mm; Circuits (maximum): 7; Contact Position: N/A; Entry Angle: Vertical; Material - Plating Termination: Tin; Number of Rows: 1; Orientation: Vertical; Packing: Tray; Pitch - Termination Interface: 1.00mm; Polarized to PCB: No; RoHS: TRUE; Stackable: No; Mounting Technology: Through Hole; ComponentLink1Description: Manufacturer URL; ComponentLink1URL: http://www.molex.com/molex/index.jsp; ComponentLink2Description: Datasheet; ComponentLink2URL: http://www.molex.com/webdocs/datasheets/pdf/en-us/0528060710_FFC_FPC_CONNECTORS.pdf; ComponentLink3Description: Package Specification; ComponentLink3URL: http://www.molex.com/pdm_docs/sd/528060710_sd.pdf
footprint MOLX-52806-0710 (FFC Connector, 7-Leads, Vertical, Pitch 1.0 mm, Mated Height 5.4 mm, Through Hole)
pins: 1, 2, 3, 4, 5, 6, 7

## 52806-0810
designator J?
1.0 mm Pitch FFC Connector, 5.4 mm Mated Height, Vertical, Non-ZIF, Through Hole, 8 Circuits, -20 to 80 degC, ELV and RoHS Compliant, Tray; Manufacturer: Molex; PartNumber: 52806-0810; Circuits (Loaded): 8; Current (Max per Contact): 0.5A; Durability (mating cycles max): 10; Mated Height: 5.40mm; Material - Metal: Phosphor Bronze; Material - Plating Mating: Tin; PCB Locator: No; PCB Retention: None; Pitch - Mating Interface: 1.00mm; Voltage (Max): 50V AC (RMS)/DC; PackageVersion: Rev. B, 08/2002; PackageReference: 52806-0810; PackageDescription: 8-Lead FFC Connector, Pitch 1.0 mm; Circuits (maximum): 8; Contact Position: N/A; Entry Angle: Vertical; Material - Plating Termination: Tin; Number of Rows: 1; Orientation: Vertical; Packing: Tray; Pitch - Termination Interface: 1.00mm; Polarized to PCB: No; RoHS: TRUE; Stackable: No; Mounting Technology: Through Hole; ComponentLink1Description: Manufacturer URL; ComponentLink1URL: http://www.molex.com/molex/index.jsp; ComponentLink2Description: Datasheet; ComponentLink2URL: http://www.molex.com/webdocs/datasheets/pdf/en-us/0528060810_FFC_FPC_CONNECTORS.pdf; ComponentLink3Description: Package Specification; ComponentLink3URL: http://www.molex.com/pdm_docs/sd/528060810_sd.pdf
footprint MOLX-52806-0810 (FFC Connector, 8-Leads, Vertical, Pitch 1.0 mm, Mated Height 5.4 mm, Through Hole)
pins: 1, 2, 3, 4, 5, 6, 7, 8

## 52806-0910
designator J?
1.0 mm Pitch FFC Connector, 5.4 mm Mated Height, Vertical, Non-ZIF, Through Hole, 9 Circuits, -20 to 80 degC, ELV and RoHS Compliant, Tray; Manufacturer: Molex; PartNumber: 52806-0910; Circuits (Loaded): 9; Current (Max per Contact): 0.5A; Durability (mating cycles max): 10; Mated Height: 5.40mm; Material - Metal: Phosphor Bronze; Material - Plating Mating: Tin; PCB Locator: No; PCB Retention: None; Pitch - Mating Interface: 1.00mm; Voltage (Max): 50V AC (RMS)/DC; PackageVersion: Rev. B, 08/2002; PackageReference: 52806-0910; PackageDescription: 9-Lead FFC Connector, Pitch 1.0 mm; Circuits (maximum): 9; Contact Position: N/A; Entry Angle: Vertical; Material - Plating Termination: Tin; Number of Rows: 1; Orientation: Vertical; Packing: Tray; Pitch - Termination Interface: 1.00mm; Polarized to PCB: No; RoHS: TRUE; Stackable: No; Mounting Technology: Through Hole; ComponentLink1Description: Manufacturer URL; ComponentLink1URL: http://www.molex.com/molex/index.jsp; ComponentLink2Description: Datasheet; ComponentLink2URL: http://www.molex.com/webdocs/datasheets/pdf/en-us/0528060910_FFC_FPC_CONNECTORS.pdf; ComponentLink3Description: Package Specification; ComponentLink3URL: http://www.molex.com/pdm_docs/sd/528060910_sd.pdf
footprint MOLX-52806-0910 (FFC Connector, 9-Leads, Vertical, Pitch 1.0 mm, Mated Height 5.4 mm, Through Hole)
pins: 1, 2, 3, 4, 5, 6, 7, 8, 9

## 52806-1010
designator J?
1.0 mm Pitch FFC Connector, 5.4 mm Mated Height, Vertical, Non-ZIF, Through Hole, 10 Circuits, -20 to 80 degC, ELV and RoHS Compliant, Tray; Manufacturer: Molex; PartNumber: 52806-1010; Circuits (Loaded): 10; Current (Max per Contact): 0.5A; Mated Height: 5.40mm; Material - Metal: Phosphor Bronze; Material - Plating Mating: Tin; PCB Locator: No; PCB Retention: None; Pitch - Mating Interface: 1.00mm; Voltage (Max): 50V AC (RMS)/DC; PackageVersion: Rev. B, 08/2002; PackageReference: 52806-1010; PackageDescription: 10-Lead FFC Connector, Pitch 1.0 mm; Circuits (maximum): 10; Contact Position: N/A; Durability (mating cycles max): 10; Entry Angle: Vertical; Material - Plating Termination: Tin; Number of Rows: 1; Orientation: Vertical; Packing: Tray; Pitch - Termination Interface: 1.00mm; Polarized to PCB: No; RoHS: TRUE; Stackable: No; Mounting Technology: Through Hole; ComponentLink1Description: Manufacturer URL; ComponentLink1URL: http://www.molex.com/molex/index.jsp; ComponentLink2Description: Datasheet; ComponentLink2URL: http://www.molex.com/webdocs/datasheets/pdf/en-us/0528061010_FFC_FPC_CONNECTORS.pdf; ComponentLink3Description: Package Specification; ComponentLink3URL: http://www.molex.com/pdm_docs/sd/528061010_sd.pdf
footprint MOLX-52806-1010 (FFC Connector, 10-Leads, Vertical, Pitch 1.0 mm, Mated Height 5.4 mm, Through Hole)
pins: 1, 2, 3, 4, 5, 6, 7, 8, 9, 10

## 52806-1110
designator J?
1.0 mm Pitch FFC Connector, 5.4 mm Mated Height, Vertical, Non-ZIF, Through Hole, 11 Circuits, -20 to 80 degC, ELV and RoHS Compliant, Tray; Manufacturer: Molex; PartNumber: 52806-1110; Circuits (Loaded): 11; Current (Max per Contact): 0.5A; Durability (mating cycles max): 10; Mated Height: 5.40mm; Material - Metal: Phosphor Bronze; Material - Plating Mating: Tin; PCB Locator: No; PCB Retention: None; Pitch - Mating Interface: 1.00mm; Voltage (Max): 50V AC (RMS)/DC; PackageVersion: Rev. B, 08/2002; PackageReference: 52806-1110; PackageDescription: 11-Lead FFC Connector, Pitch 1.0 mm; Circuits (maximum): 11; Contact Position: N/A; Entry Angle: Vertical; Material - Plating Termination: Tin; Number of Rows: 1; Orientation: Vertical; Packing: Tray; Pitch - Termination Interface: 1.00mm; Polarized to PCB: No; RoHS: TRUE; Stackable: No; Mounting Technology: Through Hole; ComponentLink1Description: Manufacturer URL; ComponentLink1URL: http://www.molex.com/molex/index.jsp; ComponentLink2Description: Datasheet; ComponentLink2URL: http://www.molex.com/webdocs/datasheets/pdf/en-us/0528061110_FFC_FPC_CONNECTORS.pdf; ComponentLink3Description: Package Specification; ComponentLink3URL: http://www.molex.com/pdm_docs/sd/528061110_sd.pdf
footprint MOLX-52806-1110 (FFC Connector, 11-Leads, Vertical, Pitch 1.0 mm, Mated Height 5.4 mm, Through Hole)
pins: 1, 2, 3, 4, 5, 6, 7, 8, 9, 10, 11

## 52806-1210
designator J?
1.0 mm Pitch FFC Connector, 5.4 mm Mated Height, Vertical, Non-ZIF, Through Hole, 12 Circuits, -20 to 80 degC, ELV and RoHS Compliant, Tray; Manufacturer: Molex; PartNumber: 52806-1210; Circuits (Loaded): 12; Current (Max per Contact): 0.5A; Durability (mating cycles max): 10; Mated Height: 5.40mm; Material - Metal: Phosphor Bronze; Material - Plating Mating: Tin; PCB Locator: No; PCB Retention: None; Pitch - Mating Interface: 1.00mm; Voltage (Max): 50V AC (RMS)/DC; PackageVersion: Rev. B, 08/2002; PackageReference: 52806-1210; PackageDescription: 12-Lead FFC Connector, Pitch 1.0 mm; Circuits (maximum): 12; Contact Position: N/A; Entry Angle: Vertical; Material - Plating Termination: Tin; Number of Rows: 1; Orientation: Vertical; Packing: Tray; Pitch - Termination Interface: 1.00mm; Polarized to PCB: No; RoHS: TRUE; Stackable: No; Mounting Technology: Through Hole; ComponentLink1Description: Manufacturer URL; ComponentLink1URL: http://www.molex.com/molex/index.jsp; ComponentLink2Description: Datasheet; ComponentLink2URL: http://www.molex.com/webdocs/datasheets/pdf/en-us/0528061210_FFC_FPC_CONNECTORS.pdf; ComponentLink3Description: Package Specification; ComponentLink3URL: http://www.molex.com/pdm_docs/sd/528061210_sd.pdf
footprint MOLX-52806-1210 (FFC Connector, 12-Leads, Vertical, Pitch 1.0 mm, Mated Height 5.4 mm, Through Hole)
pins: 1, 2, 3, 4, 5, 6, 7, 8, 9, 10, 11, 12

## 52806-1310
designator J?
1.0 mm Pitch FFC Connector, 5.4 mm Mated Height, Vertical, Non-ZIF, Through Hole, 13 Circuits, -20 to 80 degC, ELV and RoHS Compliant, Tray; Manufacturer: Molex; PartNumber: 52806-1310; Circuits (Loaded): 13; Current (Max per Contact): 0.5A; Durability (mating cycles max): 10; Mated Height: 5.40mm; Material - Metal: Phosphor Bronze; Material - Plating Mating: Tin; PCB Locator: No; PCB Retention: None; Pitch - Mating Interface: 1.00mm; Voltage (Max): 50V AC (RMS)/DC; PackageVersion: Rev. B, 08/2002; PackageReference: 52806-1310; PackageDescription: 13-Lead FFC Connector, Pitch 1.0 mm; Circuits (maximum): 13; Contact Position: N/A; Entry Angle: Vertical; Material - Plating Termination: Tin; Number of Rows: 1; Orientation: Vertical; Packing: Tray; Pitch - Termination Interface: 1.00mm; Polarized to PCB: No; RoHS: TRUE; Stackable: No; Mounting Technology: Through Hole; ComponentLink1Description: Manufacturer URL; ComponentLink1URL: http://www.molex.com/molex/index.jsp; ComponentLink2Description: Datasheet; ComponentLink2URL: http://www.molex.com/webdocs/datasheets/pdf/en-us/0528061310_FFC_FPC_CONNECTORS.pdf; ComponentLink3Description: Package Specification; ComponentLink3URL: http://www.molex.com/pdm_docs/sd/528061310_sd.pdf
footprint MOLX-52806-1310 (FFC Connector, 13-Leads, Vertical, Pitch 1.0 mm, Mated Height 5.4 mm, Through Hole)
pins: 1, 2, 3, 4, 5, 6, 7, 8, 9, 10, 11, 12, 13

## 52806-1410
designator J?
1.0 mm Pitch FFC Connector, 5.4 mm Mated Height, Vertical, Non-ZIF, Through Hole, 14 Circuits, -20 to 80 degC, ELV and RoHS Compliant, Tray; Manufacturer: Molex; PartNumber: 52806-1410; Circuits (Loaded): 14; Current (Max per Contact): 0.5A; Durability (mating cycles max): 10; Mated Height: 5.40mm; Material - Metal: Phosphor Bronze; Material - Plating Mating: Tin; PCB Locator: No; PCB Retention: None; Pitch - Mating Interface: 1.00mm; Voltage (Max): 50V AC (RMS)/DC; PackageVersion: Rev. B, 08/2002; PackageReference: 52806-1410; PackageDescription: 14-Lead FFC Connector, Pitch 1.0 mm; Circuits (maximum): 14; Contact Position: N/A; Entry Angle: Vertical; Material - Plating Termination: Tin; Number of Rows: 1; Orientation: Vertical; Packing: Tray; Pitch - Termination Interface: 1.00mm; Polarized to PCB: No; RoHS: TRUE; Stackable: No; Mounting Technology: Through Hole; ComponentLink1Description: Manufacturer URL; ComponentLink1URL: http://www.molex.com/molex/index.jsp; ComponentLink2Description: Datasheet; ComponentLink2URL: http://www.molex.com/webdocs/datasheets/pdf/en-us/0528061410_FFC_FPC_CONNECTORS.pdf; ComponentLink3Description: Package Specification; ComponentLink3URL: http://www.molex.com/pdm_docs/sd/528061410_sd.pdf
footprint MOLX-52806-1410 (FFC Connector, 14-Leads, Vertical, Pitch 1.0 mm, Mated Height 5.4 mm, Through Hole)
pins: 1, 2, 3, 4, 5, 6, 7, 8, 9, 10, 11, 12, 13, 14

## 52806-1510
designator J?
1.0 mm Pitch FFC Connector, 5.4 mm Mated Height, Vertical, Non-ZIF, Through Hole, 15 Circuits, -20 to 80 degC, ELV and RoHS Compliant, Tray; Manufacturer: Molex; PartNumber: 52806-1510; Circuits (Loaded): 15; Current (Max per Contact): 0.5A; Durability (mating cycles max): 10; Mated Height: 5.40mm; Material - Metal: Phosphor Bronze; Material - Plating Mating: Tin; PCB Locator: No; PCB Retention: None; Pitch - Mating Interface: 1.00mm; Voltage (Max): 50V AC (RMS)/DC; PackageVersion: Rev. B, 08/2002; PackageReference: 52806-1510; PackageDescription: 15-Lead FFC Connector, Pitch 1.0 mm; Circuits (maximum): 15; Contact Position: N/A; Entry Angle: Vertical; Material - Plating Termination: Tin; Number of Rows: 1; Orientation: Vertical; Packing: Tray; Pitch - Termination Interface: 1.00mm; Polarized to PCB: No; RoHS: TRUE; Stackable: No; Mounting Technology: Through Hole; ComponentLink1Description: Manufacturer URL; ComponentLink1URL: http://www.molex.com/molex/index.jsp; ComponentLink2Description: Datasheet; ComponentLink2URL: http://www.molex.com/webdocs/datasheets/pdf/en-us/0528061510_FFC_FPC_CONNECTORS.pdf; ComponentLink3Description: Package Specification; ComponentLink3URL: http://www.molex.com/pdm_docs/sd/528061510_sd.pdf
footprint MOLX-52806-1510 (FFC Connector, 15-Leads, Vertical, Pitch 1.0 mm, Mated Height 5.4 mm, Through Hole)
pins: 1, 2, 3, 4, 5, 6, 7, 8, 9, 10, 11, 12, 13, 14, 15

## 52806-1610
designator J?
1.0 mm Pitch FFC Connector, 5.4 mm Mated Height, Vertical, Non-ZIF, Through Hole, 16 Circuits, -20 to 80 degC, ELV and RoHS Compliant, Tray; Manufacturer: Molex; PartNumber: 52806-1610; Circuits (Loaded): 16; Current (Max per Contact): 0.5A; Durability (mating cycles max): 10; Mated Height: 5.40mm; Material - Metal: Phosphor Bronze; Material - Plating Mating: Tin; PCB Locator: No; PCB Retention: None; Pitch - Mating Interface: 1.00mm; Voltage (Max): 50V AC (RMS)/DC; PackageVersion: Rev. B, 08/2002; PackageReference: 52806-1610; PackageDescription: 16-Lead FFC Connector, Pitch 1.0 mm; Circuits (maximum): 16; Contact Position: N/A; Entry Angle: Vertical; Material - Plating Termination: Tin; Number of Rows: 1; Orientation: Vertical; Packing: Tray; Pitch - Termination Interface: 1.00mm; Polarized to PCB: No; RoHS: TRUE; Stackable: No; Mounting Technology: Through Hole; ComponentLink1Description: Manufacturer URL; ComponentLink1URL: http://www.molex.com/molex/index.jsp; ComponentLink2Description: Datasheet; ComponentLink2URL: http://www.molex.com/webdocs/datasheets/pdf/en-us/0528061610_FFC_FPC_CONNECTORS.pdf; ComponentLink3Description: Package Specification; ComponentLink3URL: http://www.molex.com/pdm_docs/sd/528061610_sd.pdf
footprint MOLX-52806-1610 (FFC Connector, 16-Leads, Vertical, Pitch 1.0 mm, Mated Height 5.4 mm, Through Hole)
pins: 1, 2, 3, 4, 5, 6, 7, 8, 9, 10, 11, 12, 13, 14, 15, 16

## 52806-1710
designator J?
1.0 mm Pitch FFC Connector, 5.4 mm Mated Height, Vertical, Non-ZIF, Through Hole, 17 Circuits, -20 to 80 degC, ELV and RoHS Compliant, Tray; Manufacturer: Molex; PartNumber: 52806-1710; Circuits (Loaded): 17; Current (Max per Contact): 0.5A; Durability (mating cycles max): 10; Mated Height: 5.40mm; Material - Metal: Phosphor Bronze; Material - Plating Mating: Tin; PCB Locator: No; PCB Retention: None; Pitch - Mating Interface: 1.00mm; Voltage (Max): 50V AC (RMS)/DC; PackageVersion: Rev. B, 08/2002; PackageReference: 52806-1710; PackageDescription: 17-Lead FFC Connector, Pitch 1.0 mm; Circuits (maximum): 17; Contact Position: N/A; Entry Angle: Vertical; Material - Plating Termination: Tin; Number of Rows: 1; Orientation: Vertical; Packing: Tray; Pitch - Termination Interface: 1.00mm; Polarized to PCB: No; RoHS: TRUE; Stackable: No; Mounting Technology: Through Hole; ComponentLink1Description: Manufacturer URL; ComponentLink1URL: http://www.molex.com/molex/index.jsp; ComponentLink2Description: Datasheet; ComponentLink2URL: http://www.molex.com/webdocs/datasheets/pdf/en-us/0528061710_FFC_FPC_CONNECTORS.pdf; ComponentLink3Description: Package Specification; ComponentLink3URL: http://www.molex.com/pdm_docs/sd/528061710_sd.pdf
footprint MOLX-52806-1710 (FFC Connector, 17-Leads, Vertical, Pitch 1.0 mm, Mated Height 5.4 mm, Through Hole)
pins: 1, 2, 3, 4, 5, 6, 7, 8, 9, 10, 11, 12, 13, 14, 15, 16, 17

## 52806-1810
designator J?
1.0 mm Pitch FFC Connector, 5.4 mm Mated Height, Vertical, Non-ZIF, Through Hole, 18 Circuits, -20 to 80 degC, ELV and RoHS Compliant, Tray; Manufacturer: Molex; PartNumber: 52806-1810; Circuits (Loaded): 18; Current (Max per Contact): 0.5A; Durability (mating cycles max): 10; Mated Height: 5.40mm; Material - Metal: Phosphor Bronze; Material - Plating Mating: Tin; PCB Locator: No; PCB Retention: None; Pitch - Mating Interface: 1.00mm; Voltage (Max): 50V AC (RMS)/DC; PackageVersion: Rev. B, 08/2002; PackageReference: 52806-1810; PackageDescription: 18-Lead FFC Connector, Pitch 1.0 mm; Circuits (maximum): 18; Contact Position: N/A; Entry Angle: Vertical; Material - Plating Termination: Tin; Number of Rows: 1; Orientation: Vertical; Packing: Tray; Pitch - Termination Interface: 1.00mm; Polarized to PCB: No; RoHS: TRUE; Stackable: No; Mounting Technology: Through Hole; ComponentLink1Description: Manufacturer URL; ComponentLink1URL: http://www.molex.com/molex/index.jsp; ComponentLink2Description: Datasheet; ComponentLink2URL: http://www.molex.com/webdocs/datasheets/pdf/en-us/0528061810_FFC_FPC_CONNECTORS.pdf; ComponentLink3Description: Package Specification; ComponentLink3URL: http://www.molex.com/pdm_docs/sd/528061810_sd.pdf
footprint MOLX-52806-1810 (FFC Connector, 18-Leads, Vertical, Pitch 1.0 mm, Mated Height 5.4 mm, Through Hole)
pins: 1, 2, 3, 4, 5, 6, 7, 8, 9, 10, 11, 12, 13, 14, 15, 16, 17, 18

## 52806-1910
designator J?
1.0 mm Pitch FFC Connector, 5.4 mm Mated Height, Vertical, Non-ZIF, Through Hole, 19 Circuits, -20 to 80 degC, ELV and RoHS Compliant, Tray; Manufacturer: Molex; PartNumber: 52806-1910; Circuits (Loaded): 19; Current (Max per Contact): 0.5A; Durability (mating cycles max): 10; Mated Height: 5.40mm; Material - Metal: Phosphor Bronze; Material - Plating Mating: Tin; PCB Locator: No; PCB Retention: None; Pitch - Mating Interface: 1.00mm; Voltage (Max): 50V AC (RMS)/DC; PackageVersion: Rev. B, 08/2002; PackageReference: 52806-1910; PackageDescription: 19-Lead FFC Connector, Pitch 1.0 mm; Circuits (maximum): 19; Contact Position: N/A; Entry Angle: Vertical; Material - Plating Termination: Tin; Number of Rows: 1; Orientation: Vertical; Packing: Tray; Pitch - Termination Interface: 1.00mm; Polarized to PCB: No; RoHS: TRUE; Stackable: No; Mounting Technology: Through Hole; ComponentLink1Description: Manufacturer URL; ComponentLink1URL: http://www.molex.com/molex/index.jsp; ComponentLink2Description: Datasheet; ComponentLink2URL: http://www.molex.com/webdocs/datasheets/pdf/en-us/0528061910_FFC_FPC_CONNECTORS.pdf; ComponentLink3Description: Package Specification; ComponentLink3URL: http://www.molex.com/pdm_docs/sd/528061910_sd.pdf
footprint MOLX-52806-1910 (FFC Connector, 19-Leads, Vertical, Pitch 1.0 mm, Mated Height 5.4 mm, Through Hole)
pins: 1, 2, 3, 4, 5, 6, 7, 8, 9, 10, 11, 12, 13, 14, 15, 16, 17, 18, 19

## 52806-2010
designator J?
1.0 mm Pitch FFC Connector, 5.4 mm Mated Height, Vertical, Non-ZIF, Through Hole, 20 Circuits, -20 to 80 degC, ELV and RoHS Compliant, Tray; Manufacturer: Molex; PartNumber: 52806-2010; Circuits (Loaded): 20; Current (Max per Contact): 0.5A; Durability (mating cycles max): 10; Mated Height: 5.40mm; Material - Metal: Phosphor Bronze; Material - Plating Mating: Tin; PCB Locator: No; PCB Retention: None; Pitch - Mating Interface: 1.00mm; Voltage (Max): 50V AC (RMS)/DC; PackageVersion: Rev. B, 08/2002; PackageReference: 52806-2010; PackageDescription: 20-Lead FFC Connector, Pitch 1.0 mm; Circuits (maximum): 20; Contact Position: N/A; Entry Angle: Vertical; Material - Plating Termination: Tin; Number of Rows: 1; Orientation: Vertical; Packing: Tray; Pitch - Termination Interface: 1.00mm; Polarized to PCB: No; RoHS: TRUE; Stackable: No; Mounting Technology: Through Hole; ComponentLink1Description: Manufacturer URL; ComponentLink1URL: http://www.molex.com/molex/index.jsp; ComponentLink2Description: Datasheet; ComponentLink2URL: http://www.molex.com/webdocs/datasheets/pdf/en-us/0528062010_FFC_FPC_CONNECTORS.pdf; ComponentLink3Description: Package Specification; ComponentLink3URL: http://www.molex.com/pdm_docs/sd/528062010_sd.pdf
footprint MOLX-52806-2010 (FFC Connector, 20-Leads, Vertical, Pitch 1.0 mm, Mated Height 5.4 mm, Through Hole)
pins: 1, 2, 3, 4, 5, 6, 7, 8, 9, 10, 11, 12, 13, 14, 15, 16, 17, 18, 19, 20

## 52806-2110
designator J?
1.0 mm Pitch FFC Connector, 5.4 mm Mated Height, Vertical, Non-ZIF, Through Hole, 21 Circuits, -20 to 80 degC, ELV and RoHS Compliant, Tray; Manufacturer: Molex; PartNumber: 52806-2110; Circuits (Loaded): 21; Current (Max per Contact): 0.5A; Durability (mating cycles max): 10; Mated Height: 5.40mm; Material - Metal: Phosphor Bronze; Material - Plating Mating: Tin; PCB Locator: No; PCB Retention: None; Pitch - Mating Interface: 1.00mm; Voltage (Max): 50V AC (RMS)/DC; PackageVersion: Rev. B, 08/2002; PackageReference: 52806-2110; PackageDescription: 21-Lead FFC Connector, Pitch 1.0 mm; Circuits (maximum): 21; Contact Position: N/A; Entry Angle: Vertical; Material - Plating Termination: Tin; Number of Rows: 1; Orientation: Vertical; Packing: Tray; Pitch - Termination Interface: 1.00mm; Polarized to PCB: No; RoHS: TRUE; Stackable: No; Mounting Technology: Through Hole; ComponentLink1Description: Manufacturer URL; ComponentLink1URL: http://www.molex.com/molex/index.jsp; ComponentLink2Description: Datasheet; ComponentLink2URL: http://www.molex.com/webdocs/datasheets/pdf/en-us/0528062110_FFC_FPC_CONNECTORS.pdf; ComponentLink3Description: Package Specification; ComponentLink3URL: http://www.molex.com/pdm_docs/sd/528062110_sd.pdf
footprint MOLX-52806-2110 (FFC Connector, 21-Leads, Vertical, Pitch 1.0 mm, Mated Height 5.4 mm, Through Hole)
pins: 1, 2, 3, 4, 5, 6, 7, 8, 9, 10, 11, 12, 13, 14, 15, 16, 17, 18, 19, 20, 21

## 52806-2210
designator J?
1.0 mm Pitch FFC Connector, 5.4 mm Mated Height, Vertical, Non-ZIF, Through Hole, 22 Circuits, -20 to 80 degC, ELV and RoHS Compliant, Tray; Manufacturer: Molex; PartNumber: 52806-2210; Circuits (Loaded): 22; Current (Max per Contact): 0.5A; Durability (mating cycles max): 10; Mated Height: 5.40mm; Material - Metal: Phosphor Bronze; Material - Plating Mating: Tin; PCB Locator: No; PCB Retention: None; Pitch - Mating Interface: 1.00mm; Voltage (Max): 50V AC (RMS)/DC; PackageVersion: Rev. B, 08/2002; PackageReference: 52806-2210; PackageDescription: 22-Lead FFC Connector, Pitch 1.0 mm; Circuits (maximum): 22; Contact Position: N/A; Entry Angle: Vertical; Material - Plating Termination: Tin; Number of Rows: 1; Orientation: Vertical; Packing: Tray; Pitch - Termination Interface: 1.00mm; Polarized to PCB: No; RoHS: TRUE; Stackable: No; Mounting Technology: Through Hole; ComponentLink1Description: Manufacturer URL; ComponentLink1URL: http://www.molex.com/molex/index.jsp; ComponentLink2Description: Datasheet; ComponentLink2URL: http://www.molex.com/webdocs/datasheets/pdf/en-us/0528062210_FFC_FPC_CONNECTORS.pdf; ComponentLink3Description: Package Specification; ComponentLink3URL: http://www.molex.com/pdm_docs/sd/528062210_sd.pdf
footprint MOLX-52806-2210 (FFC Connector, 22-Leads, Vertical, Pitch 1.0 mm, Mated Height 5.4 mm, Through Hole)
pins: 1, 2, 3, 4, 5, 6, 7, 8, 9, 10, 11, 12, 13, 14, 15, 16, 17, 18, 19, 20, 21, 22

## 52806-2310
designator J?
1.0 mm Pitch FFC Connector, 5.4 mm Mated Height, Vertical, Non-ZIF, Through Hole, 23 Circuits, -20 to 80 degC, ELV and RoHS Compliant, Tray; Manufacturer: Molex; PartNumber: 52806-2310; Circuits (Loaded): 23; Current (Max per Contact): 0.5A; Durability (mating cycles max): 10; Mated Height: 5.40mm; Material - Metal: Phosphor Bronze; Material - Plating Mating: Tin; PCB Locator: No; PCB Retention: None; Pitch - Mating Interface: 1.00mm; Voltage (Max): 50V AC (RMS)/DC; PackageVersion: Rev. B, 08/2002; PackageReference: 52806-2310; PackageDescription: 23-Lead FFC Connector, Pitch 1.0 mm; Circuits (maximum): 23; Contact Position: N/A; Entry Angle: Vertical; Material - Plating Termination: Tin; Number of Rows: 1; Orientation: Vertical; Packing: Tray; Pitch - Termination Interface: 1.00mm; Polarized to PCB: No; RoHS: TRUE; Stackable: No; Mounting Technology: Through Hole; ComponentLink1Description: Manufacturer URL; ComponentLink1URL: http://www.molex.com/molex/index.jsp; ComponentLink2Description: Datasheet; ComponentLink2URL: http://www.molex.com/webdocs/datasheets/pdf/en-us/0528062310_FFC_FPC_CONNECTORS.pdf; ComponentLink3Description: Package Specification; ComponentLink3URL: http://www.molex.com/pdm_docs/sd/528062310_sd.pdf
footprint MOLX-52806-2310 (FFC Connector, 23-Leads, Vertical, Pitch 1.0 mm, Mated Height 5.4 mm, Through Hole)
pins: 1, 2, 3, 4, 5, 6, 7, 8, 9, 10, 11, 12, 13, 14, 15, 16, 17, 18, 19, 20, 21, 22, 23

## 52806-2410
designator J?
1.0 mm Pitch FFC Connector, 5.4 mm Mated Height, Vertical, Non-ZIF, Through Hole, 24 Circuits, -20 to 80 degC, ELV and RoHS Compliant, Tray; Manufacturer: Molex; PartNumber: 52806-2410; Circuits (Loaded): 24; Current (Max per Contact): 0.5A; Durability (mating cycles max): 10; Mated Height: 5.40mm; Material - Metal: Phosphor Bronze; Material - Plating Mating: Tin; PCB Locator: No; PCB Retention: None; Pitch - Mating Interface: 1.00mm; Voltage (Max): 50V AC (RMS)/DC; PackageVersion: Rev. B, 08/2002; PackageReference: 52806-2410; PackageDescription: 24-Lead FFC Connector, Pitch 1.0 mm; Circuits (maximum): 24; Contact Position: N/A; Entry Angle: Vertical; Material - Plating Termination: Tin; Number of Rows: 1; Orientation: Vertical; Packing: Tray; Pitch - Termination Interface: 1.00mm; Polarized to PCB: No; RoHS: TRUE; Stackable: No; Mounting Technology: Through Hole; ComponentLink1Description: Manufacturer URL; ComponentLink1URL: http://www.molex.com/molex/index.jsp; ComponentLink2Description: Datasheet; ComponentLink2URL: http://www.molex.com/webdocs/datasheets/pdf/en-us/0528062410_FFC_FPC_CONNECTORS.pdf; ComponentLink3Description: Package Specification; ComponentLink3URL: http://www.molex.com/pdm_docs/sd/528062410_sd.pdf
footprint MOLX-52806-2410 (FFC Connector, 24-Leads, Vertical, Pitch 1.0 mm, Mated Height 5.4 mm, Through Hole)
pins: 1, 2, 3, 4, 5, 6, 7, 8, 9, 10, 11, 12, 13, 14, 15, 16, 17, 18, 19, 20, 21, 22, 23, 24